# Altium footprint library SM05B-GHS-TB.PcbLib: 1 footprints
Each footprint in its own frame and in the unit in brackets; x right, y up, seen from the top. Pads: shape width x height; smd on the part's side, far side on the other; paste and mask are expansions set on the pad; w line width, h text height; cw(c..) or ccw(c..) is an arc to the next point about the centre after c.
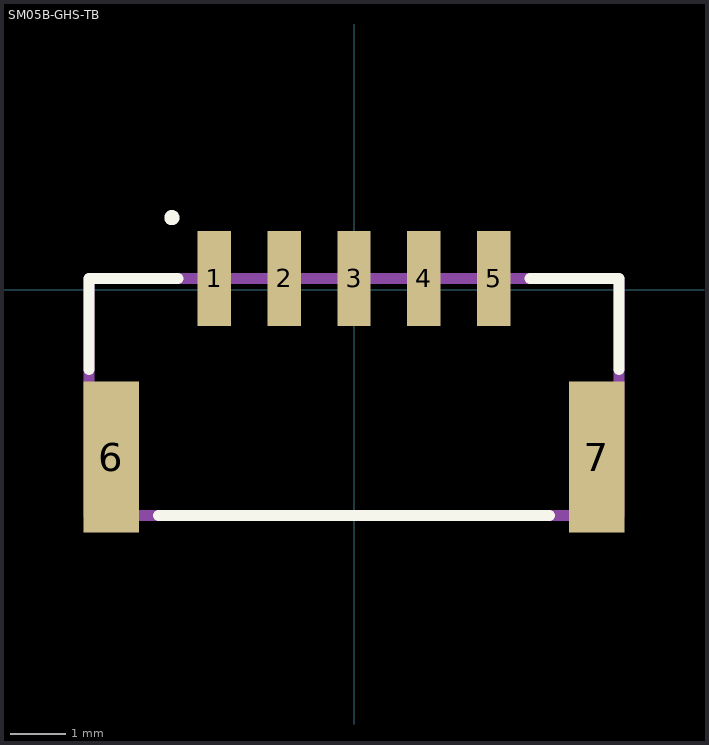
[diagram p0: the footprint, top view; thin cyan lines are the x and y axes]

## SM05B-GHS-TB [mm]
pads (7):
  rect 0.6x1.7 smd: 1(-2.5,0.2) 2(-1.25,0.2) 3(0,0.2) 4(1.25,0.2) 5(2.5,0.2)
  rect 1x2.7 smd: 6(-4.35,-3) 7(4.35,-3)
Top Overlay:
  circle w0.2: c-3.263,1.288 r0.036
  lines w0.2: -4.75,-1.429 -4.75,0.2 -3.153,0.2 ; -3.5,-4.05 3.5,-4.05 ; 3.153,0.2 4.75,0.2 4.75,-1.429
Mechanical 15:
  lines w0.2: -4.75,-4.05 4.75,-4.05 4.75,0.2 -4.75,0.2 -4.75,-4.05
3D body "SM05B-GHS-TB_LF__SN_.stp": height 5.8, standoff -4.65, extent -10,-3.376 10,3.376